# EAGLE library part MAX1472AKA+T (library ducks)
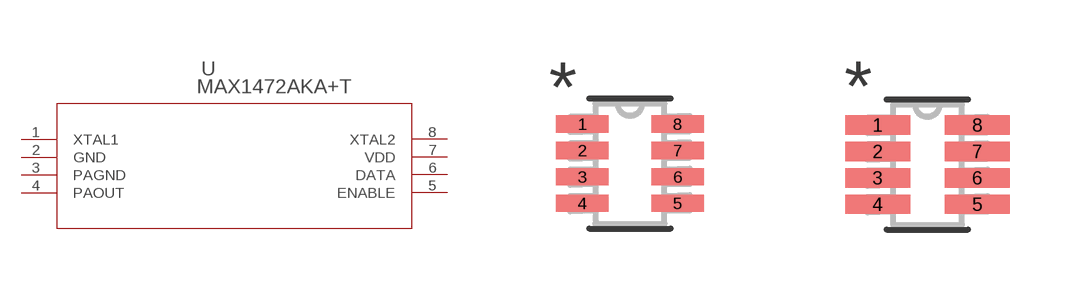
[diagram p0: symbol with the pads of 21-0078H; footprints 21-0078H, 21-0078H-M]

Designator prefix U

## MAX1472AKA+T (MANUFACTURER_PART_NUMBER: MAX1472AKA+T; VENDOR: Maxim Integrated Products)  [21-0078H]
1  XTAL1
2  GND  pwr
3  PAGND
4  PAOUT
5  ENABLE
6  DATA
7  VDD  pwr
8  XTAL2

## MAX1472AKA+T21-0078H-M (MANUFACTURER_PART_NUMBER: MAX1472AKA+T; VENDOR: Maxim Integrated Products)  [21-0078H-M]
Pads as for 21-0078H

## MAX1472AKA+T21-0078H-L (MANUFACTURER_PART_NUMBER: MAX1472AKA+T; VENDOR: Maxim Integrated Products)  [21-0078H-L]
Pads as for 21-0078H

## Footprint 21-0078H (pad centres in mm)
smd 1.321 x 0.432: 1 -1.194,0.991; 2 -1.194,0.33; 3 -1.194,-0.33; 4 -1.194,-0.991; 5 1.194,-0.991; 6 1.194,-0.33; 7 1.194,0.33; 8 1.194,0.991

## Footprint 21-0078H-M (pad centres in mm)
smd 1.626 x 0.483: 1 -1.245,0.991; 2 -1.245,0.33; 3 -1.245,-0.33; 4 -1.245,-0.991; 5 1.245,-0.991; 6 1.245,-0.33; 7 1.245,0.33; 8 1.245,0.991

## Footprint 21-0078H-L (pad centres in mm)
smd 1.016 x 0.381: 1 -1.143,0.991; 2 -1.143,0.33; 3 -1.143,-0.33; 4 -1.143,-0.991; 5 1.143,-0.991; 6 1.143,-0.33; 7 1.143,0.33; 8 1.143,0.991